# EAGLE library part LM723 (library #PaJa_31)
Stabilizator - s nastavitelnym napetim 2V az 37V, 0,15A
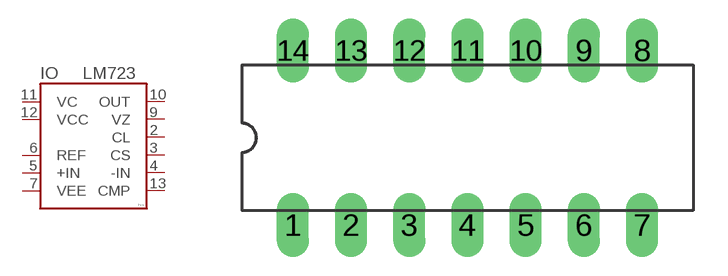
[diagram p38: symbol with the pads of DIL14; footprint DIL14]

Designator prefix IO

## LM723  [DIL14]
2  CL  pas
3  CS  pas
4  -IN  pas
5  +IN  pas
6  REF  pas
7  VEE  pas
9  VZ  pas
10  OUT  pas
11  VC  pas
12  VCC  pas
13  CMP  pas

## Footprint DIL14 (pad centres in mm)
drill 0.813 pad 1.4 long: 1 -7.62,-3.81; 2 -5.08,-3.81; 3 -2.54,-3.81; 4 0,-3.81; 5 2.54,-3.81; 6 5.08,-3.81; 7 7.62,-3.81; 8 7.62,3.81; 9 5.08,3.81; 10 2.54,3.81; 11 0,3.81; 12 -2.54,3.81; 13 -5.08,3.81; 14 -7.62,3.81